# Altium footprint library 5055750771.PcbLib: 1 footprints
Each footprint in its own frame and in the unit in brackets; x right, y up, seen from the top. Pads: shape width x height; smd on the part's side, far side on the other; paste and mask are expansions set on the pad; w line width, h text height; cw(c..) or ccw(c..) is an arc to the next point about the centre after c.
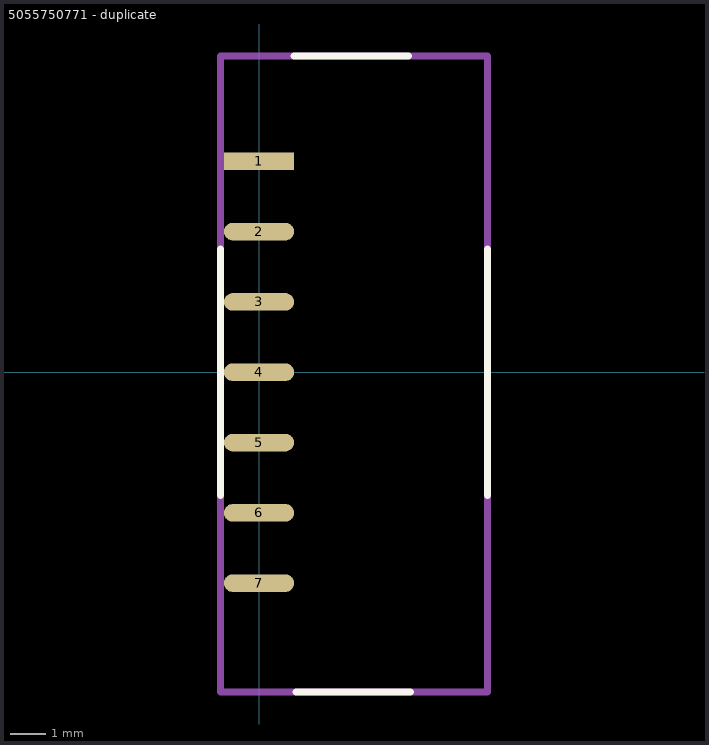
[diagram p0: the footprint, top view; thin cyan lines are the x and y axes]

## 5055750771 - duplicate [mm]
pads (7):
  rect 2x0.5 smd: 1(0,6)
  oval 2x0.5 smd: 2(0,4) 3(0,2) 4(0,0) 5(0,-2) 6(0,-4) 7(0,-6)
Top Overlay:
  lines w0.2: -1.1,-3.5 -1.1,3.5 ; 1,9 4.25,9 ; 1.05,-9.1 4.3,-9.1 ; 6.5,-3.5 6.5,3.5
Mechanical 13:
  lines w0.2: -1.1,-9.1 6.5,-9.1 6.5,9 4.563,9 0.687,9 -1.1,9 -1.1,-9.1
3D body "5055750271.stp": height 8.61, standoff 0.01, extent -1.01,-9 6.4,9